# EAGLE library part SN74HC4066 (library 04_IC)
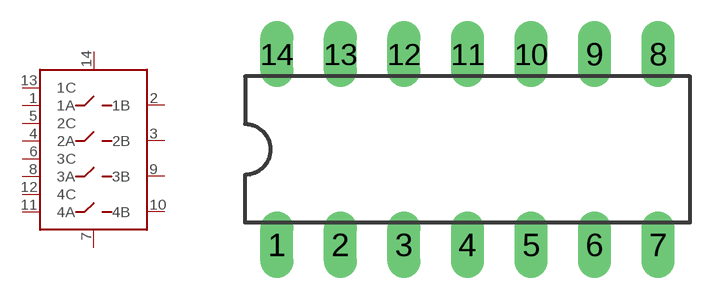
[diagram p9: symbol with the pads of DIL14; footprint DIL14]

Designator prefix -

## SN74HC4066  [DIL14]
1  1A
2  1B
3  2B
4  2A
5  2C
6  3C
7  GND
8  3A
9  3B
10  4B
11  4A
12  4C
13  1C
14  VCC

## Footprint DIL14 (pad centres in mm)
Dual In Line Package
drill 0.813 long: 1 -7.62,-3.81; 2 -5.08,-3.81; 3 -2.54,-3.81; 4 0,-3.81; 5 2.54,-3.81; 6 5.08,-3.81; 7 7.62,-3.81; 8 7.62,3.81; 9 5.08,3.81; 10 2.54,3.81; 11 0,3.81; 12 -2.54,3.81; 13 -5.08,3.81; 14 -7.62,3.81